# Altium schematic symbol library Resistors.SchLib: 67 symbols (part 6 of 6)
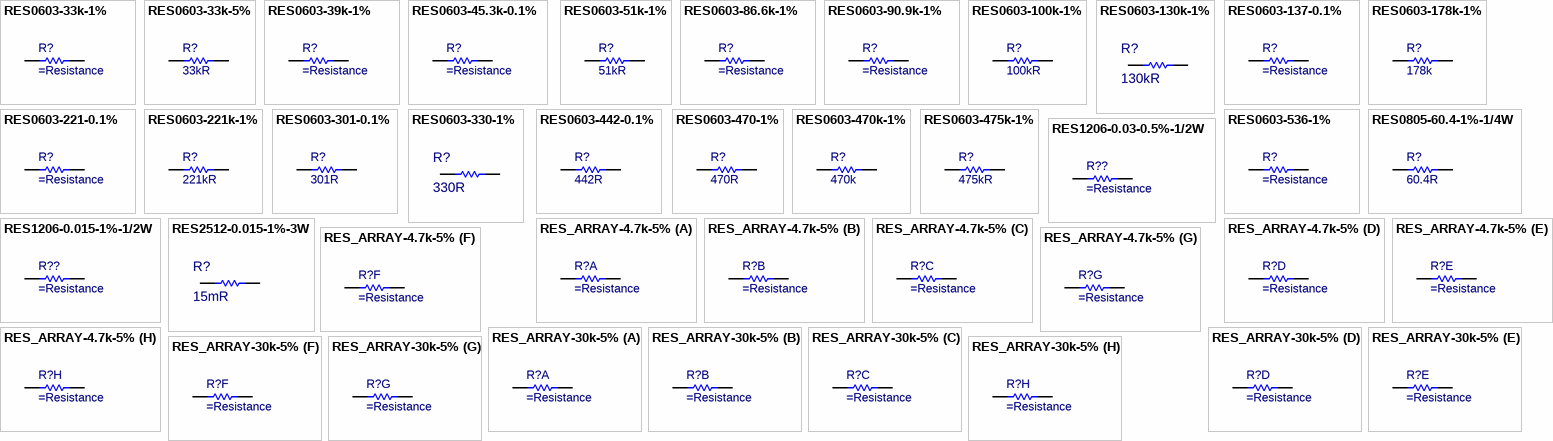
[diagram p7: symbols RES0603-33k-1% to RES_ARRAY-30k-5%]

## RES0603-475k-1%
designator R?, comment 475kR
RES SMD 475K OHM 1% 1/10W 0603; Manufacturer: Bourns; Manufacturer Part Number: CR0603-FX-4753ELF; Power Rating: 100mW; Voltage Rating: 50V; Temperature Coefficient: 100ppm/°C; ComponentLink1URL: https://datasheet.ciiva.com/9122/chpreztr-9122363.pdf; ComponentLink1Description: https://datasheet.ciiva.com/9122/chpreztr-9122363.pdf; ComponentLink2URL: https://datasheet.ciiva.com/22713/691949-22713239.pdf?src-supplier=Element14; ComponentLink2Description: https://datasheet.ciiva.com/22713/691949-22713239.pdf?src-supplier=Element14; ComponentLink3URL: https://datasheet.ciiva.com/23776/1902866-23776391.pdf?src-supplier=Newark; ComponentLink3Description: https://datasheet.ciiva.com/23776/1902866-23776391.pdf?src-supplier=Newark; ComponentLink4URL: https://datasheet.ciiva.com/16766/70154685-16766760.pdf?src-supplier=Allied+Electronics; ComponentLink4Description: https://datasheet.ciiva.com/16766/70154685-16766760.pdf?src-supplier=Allied+Electronics; ComponentLink5URL: https://datasheet.ciiva.com/30229/159chpreztr-30229129.pdf?src-supplier=Onlinecomponents.com; ComponentLink5Description: https://datasheet.ciiva.com/30229/159chpreztr-30229129.pdf?src-supplier=Onlinecomponents.com; ComponentLink6URL: https://datasheet.ciiva.com/16935/chpreztr-16935963.pdf?src-supplier=Avnet+Europe; ComponentLink6Description: https://datasheet.ciiva.com/16935/chpreztr-16935963.pdf?src-supplier=Avnet+Europe; ComponentLink7URL: https://datasheet.ciiva.com/5543/chpreztr-5543676.pdf?src-supplier=Mouser; ComponentLink7Description: https://datasheet.ciiva.com/5543/chpreztr-5543676.pdf?src-supplier=Mouser; ComponentLink8URL: https://datasheet.ciiva.com/9120/chpreztr-9120764.pdf?src-supplier=Avnet; ComponentLink8Description: https://datasheet.ciiva.com/9120/chpreztr-9120764.pdf?src-supplier=Avnet; ComponentLink9URL: https://datasheet.ciiva.com/46383/1791942-46383790.pdf?src-supplier=Element14; ComponentLink9Description: https://datasheet.ciiva.com/46383/1791942-46383790.pdf?src-supplier=Element14; ComponentLink10URL: https://datasheet.ciiva.com/48692/001055501-da-01-en-smd-wid-cr0603-jw-104elf-100k-ohm-1-10w-48692133.pdf?src-supplier=Conrad; ComponentLink10Description: https://datasheet.ciiva.com/48692/001055501-da-01-en-smd-wid-cr0603-jw-104elf-100k-ohm-1-10w-48692133.pdf?src-supplier=Conrad; ComponentLink11URL: https://datasheet.ciiva.com/39121/775172-39121475.pdf?src-supplier=Jameco; ComponentLink11Description: https://datasheet.ciiva.com/39121/775172-39121475.pdf?src-supplier=Jameco; ComponentLink12URL: https://datasheet.ciiva.com/30052/159chpreztr-30052709.pdf?src-supplier=Onlinecomponents.com; ComponentLink12Description: https://datasheet.ciiva.com/30052/159chpreztr-30052709.pdf?src-supplier=Onlinecomponents.com; ComponentLink13URL: https://datasheet.ciiva.com/16935/chpreztr-16935910.pdf?src-supplier=Avnet+Europe; ComponentLink13Description: https://datasheet.ciiva.com/16935/chpreztr-16935910.pdf?src-supplier=Avnet+Europe; ComponentLink14URL: https://datasheet.ciiva.com/46383/1791942-46383767.pdf?src-supplier=Element14; ComponentLink14Description: https://datasheet.ciiva.com/46383/1791942-46383767.pdf?src-supplier=Element14; ComponentLink15URL: https://datasheet.ciiva.com/7986/1902866-7986185.pdf?src-supplier=Element14; ComponentLink15Description: https://datasheet.ciiva.com/7986/1902866-7986185.pdf?src-supplier=Element14; ComponentLink16URL: https://datasheet.ciiva.com/6547/chpreztr-6547278.pdf?src-supplier=Digi-Key; ComponentLink16Description: https://datasheet.ciiva.com/6547/chpreztr-6547278.pdf?src-supplier=Digi-Key; ComponentLink17URL: https://datasheet.ciiva.com/6547/chpreztr-6547279.pdf?src-supplier=Digi-Key; ComponentLink17Description: https://datasheet.ciiva.com/6547/chpreztr-6547279.pdf?src-supplier=Digi-Key; ComponentLink18URL: https://datasheet.ciiva.com/16757/70154685-16757477.pdf?src-supplier=Allied+Electronics; ComponentLink18Description: https://datasheet.ciiva.com/16757/70154685-16757477.pdf?src-supplier=Allied+Electronics; ComponentLink19URL: https://datasheet.ciiva.com/22713/691949-22713237.pdf?src-supplier=Element14; ComponentLink19Description: https://datasheet.ciiva.com/22713/691949-22713237.pdf?src-supplier=Element14; ComponentLink20URL: https://datasheet.ciiva.com/6564/chpreztr-6564439.pdf?src-supplier=Digi-Key; ComponentLink20Description: https://datasheet.ciiva.com/6564/chpreztr-6564439.pdf?src-supplier=Digi-Key; ComponentLink21URL: https://datasheet.ciiva.com/16935/chpreztr-16935928.pdf?src-supplier=Avnet+Europe; ComponentLink21Description: https://datasheet.ciiva.com/16935/chpreztr-16935928.pdf?src-supplier=Avnet+Europe; ComponentLink22URL: https://datasheet.ciiva.com/6564/chpreztr-6564441.pdf?src-supplier=Digi-Key; ComponentLink22Description: https://datasheet.ciiva.com/6564/chpreztr-6564441.pdf?src-supplier=Digi-Key; ComponentLink23URL: https://datasheet.ciiva.com/9123/chpreztr-9123706.pdf?src-supplier=Avnet; ComponentLink23Description: https://datasheet.ciiva.com/9123/chpreztr-9123706.pdf?src-supplier=Avnet; ComponentLink24URL: https://datasheet.ciiva.com/7986/1902866-7986188.pdf?src-supplier=Element14; ComponentLink24Description: https://datasheet.ciiva.com/7986/1902866-7986188.pdf?src-supplier=Element14; ComponentLink25URL: https://datasheet.ciiva.com/46383/691949-46383788.pdf?src-supplier=Element14; ComponentLink25Description: https://datasheet.ciiva.com/46383/691949-46383788.pdf?src-supplier=Element14; ComponentLink26URL: https://datasheet.ciiva.com/11808/0900766b80fcdb72-11808035.pdf?src-supplier=RSComponents; ComponentLink26Description: https://datasheet.ciiva.com/11808/0900766b80fcdb72-11808035.pdf?src-supplier=RSComponents; ComponentLink27URL: https://datasheet.ciiva.com/19466/774882-19466523.pdf?src-supplier=Jameco; ComponentLink27Description: https://datasheet.ciiva.com/19466/774882-19466523.pdf?src-supplier=Jameco; ComponentLink28URL: https://datasheet.ciiva.com/6547/chpreztr-6547349.pdf?src-supplier=Digi-Key; ComponentLink28Description: https://datasheet.ciiva.com/6547/chpreztr-6547349.pdf?src-supplier=Digi-Key; ComponentLink29URL: https://datasheet.ciiva.com/16941/chpreztr-16941637.pdf?src-supplier=Avnet+Europe; ComponentLink29Description: https://datasheet.ciiva.com/16941/chpreztr-16941637.pdf?src-supplier=Avnet+Europe; ComponentLink30URL: https://datasheet.ciiva.com/22693/1902866-22693205.pdf?src-supplier=Element14; ComponentLink30Description: https://datasheet.ciiva.com/22693/1902866-22693205.pdf?src-supplier=Element14; ComponentLink31URL: https://datasheet.ciiva.com/6547/chpreztr-6547350.pdf?src-supplier=Digi-Key; ComponentLink31Description: https://datasheet.ciiva.com/6547/chpreztr-6547350.pdf?src-supplier=Digi-Key; ComponentLink32URL: https://datasheet.ciiva.com/7001/1902866-7001622.pdf?src-supplier=Newark; ComponentLink32Description: https://datasheet.ciiva.com/7001/1902866-7001622.pdf?src-supplier=Newark; ComponentLink33URL: https://datasheet.ciiva.com/30115/159chpreztr-30115222.pdf?src-supplier=Onlinecomponents.com; ComponentLink33Description: https://datasheet.ciiva.com/30115/159chpreztr-30115222.pdf?src-supplier=Onlinecomponents.com; ComponentLink34URL: https://datasheet.ciiva.com/6547/chpreztr-6547351.pdf?src-supplier=Digi-Key; ComponentLink34Description: https://datasheet.ciiva.com/6547/chpreztr-6547351.pdf?src-supplier=Digi-Key; ComponentLink35URL: https://datasheet.ciiva.com/16757/70154685-16757482.pdf?src-supplier=Allied+Electronics; ComponentLink35Description: https://datasheet.ciiva.com/16757/70154685-16757482.pdf?src-supplier=Allied+Electronics; ComponentLink36URL: https://datasheet.ciiva.com/5546/chpreztr-5546283.pdf?src-supplier=Mouser; ComponentLink36Description: https://datasheet.ciiva.com/5546/chpreztr-5546283.pdf?src-supplier=Mouser; ComponentLink37URL: https://datasheet.ciiva.com/7986/691949-7986156.pdf?src-supplier=Element14; ComponentLink37Description: https://datasheet.ciiva.com/7986/691949-7986156.pdf?src-supplier=Element14; ComponentLink38URL: https://datasheet.ciiva.com/3255/chpreztr-3255917.pdf?src-supplier=Avnet; ComponentLink38Description: https://datasheet.ciiva.com/3255/chpreztr-3255917.pdf?src-supplier=Avnet; ComponentLink39URL: https://datasheet.ciiva.com/5547/chpreztr-5547814.pdf?src-supplier=Mouser; ComponentLink39Description: https://datasheet.ciiva.com/5547/chpreztr-5547814.pdf?src-supplier=Mouser; ComponentLink40URL: https://datasheet.ciiva.com/18594/chpreztr-18594942.pdf?src-supplier=Digi-Key; ComponentLink40Description: https://datasheet.ciiva.com/18594/chpreztr-18594942.pdf?src-supplier=Digi-Key; ComponentLink41URL: https://datasheet.ciiva.com/18594/chpreztr-18594943.pdf?src-supplier=Digi-Key; ComponentLink41Description: https://datasheet.ciiva.com/18594/chpreztr-18594943.pdf?src-supplier=Digi-Key; Supplier 1: Digi-Key; RoHS: Yes; Category: Chip SMD Resistors; Stock 1: 18305; Pricing 1: 1=0,10000, 10=0,05600, 100=0,02270, 1000=0,01020, 2500=0,00886 (USD); Mount: Surface Mount; Case/Package: 0603; Case Code (Metric): 1608; Case Code (Imperial): 0603; Contact Plating: Tin; Min Operating Temperature: -55°C; Max Operating Temperature: 155°C; Resistance: 475kR; Tolerance: 1%; Packaging: Tape and Reel; Package Quantity: 5000; Number of Terminations: 2; Termination: SMD/SMT; Military Standard: Not; Features: Moisture Resistant; Composition: Thick Film; Max Power Dissipation: 100mW; Length: 1.6mm; Height: 0.022inch; Width: 0.031inch; Thickness: 457um; Depth: 0.8mm; Radiation Hardening: No; ComponentLink42URL: https://datasheet.ciiva.com/9119/chpreztr-9119642.pdf?src-supplier=Avnet; ComponentLink42Description: https://datasheet.ciiva.com/9119/chpreztr-9119642.pdf?src-supplier=Avnet; ComponentLink43URL: https://datasheet.ciiva.com/14986/chpreztr-14986477.pdf?src-supplier=Digi-Key; ComponentLink43Description: https://datasheet.ciiva.com/14986/chpreztr-14986477.pdf?src-supplier=Digi-Key; ComponentLink44URL: https://datasheet.ciiva.com/5545/chpreztr-5545629.pdf?src-supplier=Mouser; ComponentLink44Description: https://datasheet.ciiva.com/5545/chpreztr-5545629.pdf?src-supplier=Mouser; Supplier Part Number 1: CR0603-FX-4753ELFCT-ND
footprint R0603 (Chip Resistor, 2-Leads, Body 1.75x0.95mm)
pins: 1, 2

## RES0603-536-1%
designator R?
RES SMD 536 OHM 1% 1/10W 0603; Manufacturer: Bourns; Manufacturer Part Number: CR0603-FX-5360ELF; Resistance: 536Ω; Max Power Dissipation: 100mW; Value: 536Ω; Temperature Coefficient: 100ppm/°C; Voltage Rating: 75V; ComponentLink1URL: https://datasheet.octopart.com:443/CRCW0603536RFKEC-Vishay-datasheet-175423584.pdf?src-supplier=IHS; ComponentLink1Description: https://datasheet.octopart.com:443/CRCW0603536RFKEC-Vishay-datasheet-175423584.pdf?src-supplier=IHS; ComponentLink2URL: https://datasheet.octopart.com:443/CRCW0603536RFKEC-Vishay-datasheet-62316122.pdf?src-supplier=Upverter; ComponentLink2Description: https://datasheet.octopart.com:443/CRCW0603536RFKEC-Vishay-datasheet-62316122.pdf?src-supplier=Upverter; ComponentLink3URL: https://datasheet.octopart.com/D-CRCW-e3-Standard-Thick-Film-Chip-Resistors-Vishay-datasheet-family-64.pdf; ComponentLink3Description: https://datasheet.octopart.com/D-CRCW-e3-Standard-Thick-Film-Chip-Resistors-Vishay-datasheet-family-64.pdf; ComponentLink4URL: http://sigma.octopart.com:80/rohs_certificate/D-CRCW-e3-Standard-Thick-Film-Chip-Resistors-Vishay-family-102.pdf?src-supplier=Compliance+Statements; ComponentLink4Description: http://sigma.octopart.com:80/rohs_certificate/D-CRCW-e3-Standard-Thick-Film-Chip-Resistors-Vishay-family-102.pdf?src-supplier=Compliance+Statements; Supplier: DigiKey; Supplier Part Number: 118-CR0603-FX-5360ELFCT-ND; RoHS: Compliant; Category: Chip SMD Resistors; Stock: 18075; Pricing: 1=0,1, 10=0,025, 25=0,0188, 50=0,015, 100=0,0122, 250=0,00948, 500=0,00794, 1000=0,00671 (USD); Case/Package: 0603; Case Code (Imperial): 0603; Case Code (Metric): 1608; China RoHS: Non-Compliant; Composition: Thick Film; Contact Plating: Tin; Depth: 800µm; Features: Moisture Resistant; Height: 450µm; Lifecycle Status: Production; Max Operating Temperature: 155°C; Military Standard: Not; Min Operating Temperature: -55°C; Mounting Technology: Surface Mount; Number of Terminals: 2; Number of Terminations: 2; Packaging: Tape & Reel; Power Dissipation: 100mW; Power Rating: 100mW; Radiation Hardening: No; REACH SVHC: Yes; Termination: SMD/SMT; Tolerance: 1%; Width: 800µm; Working Voltage: 75V; ComponentLink5URL: https://datasheet.octopart.com:443/CR0603-FX-5360ELF-Bourns-datasheet-159578630.pdf?src-supplier=IHS; ComponentLink5Description: https://datasheet.octopart.com:443/CR0603-FX-5360ELF-Bourns-datasheet-159578630.pdf?src-supplier=IHS; ComponentLink6URL: https://datasheet.octopart.com:443/CR0603-FX-5360ELF-Bourns-datasheet-181955239.pdf?src-supplier=IHS; ComponentLink6Description: https://datasheet.octopart.com:443/CR0603-FX-5360ELF-Bourns-datasheet-181955239.pdf?src-supplier=IHS; ComponentLink7URL: https://datasheet.octopart.com/CR0603-FX-5360ELF-Bourns-datasheet-5318152.pdf; ComponentLink7Description: https://datasheet.octopart.com/CR0603-FX-5360ELF-Bourns-datasheet-5318152.pdf; ComponentLink8URL: https://datasheet.octopart.com:443/CR0603-FX-5360ELF-Bourns-datasheet-154729663.pdf?src-supplier=Electro+Sonic; ComponentLink8Description: https://datasheet.octopart.com:443/CR0603-FX-5360ELF-Bourns-datasheet-154729663.pdf?src-supplier=Electro+Sonic; ComponentLink9URL: https://datasheet.octopart.com:443/CR0603-FX-5360ELF-Bourns-datasheet-68301634.pdf?src-supplier=Burklin+Elektronik; ComponentLink9Description: https://datasheet.octopart.com:443/CR0603-FX-5360ELF-Bourns-datasheet-68301634.pdf?src-supplier=Burklin+Elektronik; ComponentLink10URL: http://sigma.octopart.com:80/conflict_mineral_statement/Bourns-company-36.pdf?src-supplier=Compliance+Statements; ComponentLink10Description: http://sigma.octopart.com:80/conflict_mineral_statement/Bourns-company-36.pdf?src-supplier=Compliance+Statements; Supplier 1: DigiKey; Supplier Part Number 1: 118-CR0603-FX-5360ELFCT-ND
footprint R0603 (Chip Resistor, 2-Leads, Body 1.75x0.95mm)
pins: 1, 2

## RES0805-60.4-1%-1/4W
designator R?, comment 60.4R
RES 60.4 OHM 1% 1/4W 0805; Manufacturer: KOA Speer; Manufacturer Part Number: RK73H2ATTD60R4F; Temperature Coefficient: 100ppm/°C; Voltage Rating (DC): 150V; Power Rating: 125mW; ComponentLink1URL: https://datasheet.ciiva.com/9122/chpreztr-9122363.pdf; ComponentLink1Description: https://datasheet.ciiva.com/9122/chpreztr-9122363.pdf; ComponentLink2URL: https://datasheet.ciiva.com/22713/691949-22713239.pdf?src-supplier=Element14; ComponentLink2Description: https://datasheet.ciiva.com/22713/691949-22713239.pdf?src-supplier=Element14; ComponentLink3URL: https://datasheet.ciiva.com/23776/1902866-23776391.pdf?src-supplier=Newark; ComponentLink3Description: https://datasheet.ciiva.com/23776/1902866-23776391.pdf?src-supplier=Newark; ComponentLink4URL: https://datasheet.ciiva.com/16766/70154685-16766760.pdf?src-supplier=Allied+Electronics; ComponentLink4Description: https://datasheet.ciiva.com/16766/70154685-16766760.pdf?src-supplier=Allied+Electronics; ComponentLink5URL: https://datasheet.ciiva.com/30229/159chpreztr-30229129.pdf?src-supplier=Onlinecomponents.com; ComponentLink5Description: https://datasheet.ciiva.com/30229/159chpreztr-30229129.pdf?src-supplier=Onlinecomponents.com; ComponentLink6URL: https://datasheet.ciiva.com/16935/chpreztr-16935963.pdf?src-supplier=Avnet+Europe; ComponentLink6Description: https://datasheet.ciiva.com/16935/chpreztr-16935963.pdf?src-supplier=Avnet+Europe; ComponentLink7URL: https://datasheet.ciiva.com/5543/chpreztr-5543676.pdf?src-supplier=Mouser; ComponentLink7Description: https://datasheet.ciiva.com/5543/chpreztr-5543676.pdf?src-supplier=Mouser; ComponentLink8URL: https://datasheet.ciiva.com/9120/chpreztr-9120764.pdf?src-supplier=Avnet; ComponentLink8Description: https://datasheet.ciiva.com/9120/chpreztr-9120764.pdf?src-supplier=Avnet; ComponentLink9URL: https://datasheet.ciiva.com/46383/1791942-46383790.pdf?src-supplier=Element14; ComponentLink9Description: https://datasheet.ciiva.com/46383/1791942-46383790.pdf?src-supplier=Element14; ComponentLink10URL: https://datasheet.ciiva.com/48692/001055501-da-01-en-smd-wid-cr0603-jw-104elf-100k-ohm-1-10w-48692133.pdf?src-supplier=Conrad; ComponentLink10Description: https://datasheet.ciiva.com/48692/001055501-da-01-en-smd-wid-cr0603-jw-104elf-100k-ohm-1-10w-48692133.pdf?src-supplier=Conrad; ComponentLink11URL: https://datasheet.ciiva.com/39121/775172-39121475.pdf?src-supplier=Jameco; ComponentLink11Description: https://datasheet.ciiva.com/39121/775172-39121475.pdf?src-supplier=Jameco; ComponentLink12URL: https://datasheet.ciiva.com/30052/159chpreztr-30052709.pdf?src-supplier=Onlinecomponents.com; ComponentLink12Description: https://datasheet.ciiva.com/30052/159chpreztr-30052709.pdf?src-supplier=Onlinecomponents.com; ComponentLink13URL: https://datasheet.ciiva.com/16935/chpreztr-16935910.pdf?src-supplier=Avnet+Europe; ComponentLink13Description: https://datasheet.ciiva.com/16935/chpreztr-16935910.pdf?src-supplier=Avnet+Europe; ComponentLink14URL: https://datasheet.ciiva.com/46383/1791942-46383767.pdf?src-supplier=Element14; ComponentLink14Description: https://datasheet.ciiva.com/46383/1791942-46383767.pdf?src-supplier=Element14; ComponentLink15URL: https://datasheet.ciiva.com/7986/1902866-7986185.pdf?src-supplier=Element14; ComponentLink15Description: https://datasheet.ciiva.com/7986/1902866-7986185.pdf?src-supplier=Element14; ComponentLink16URL: https://datasheet.ciiva.com/6547/chpreztr-6547278.pdf?src-supplier=Digi-Key; ComponentLink16Description: https://datasheet.ciiva.com/6547/chpreztr-6547278.pdf?src-supplier=Digi-Key; ComponentLink17URL: https://datasheet.ciiva.com/6547/chpreztr-6547279.pdf?src-supplier=Digi-Key; ComponentLink17Description: https://datasheet.ciiva.com/6547/chpreztr-6547279.pdf?src-supplier=Digi-Key; ComponentLink18URL: https://datasheet.ciiva.com/16757/70154685-16757477.pdf?src-supplier=Allied+Electronics; ComponentLink18Description: https://datasheet.ciiva.com/16757/70154685-16757477.pdf?src-supplier=Allied+Electronics; ComponentLink19URL: https://datasheet.ciiva.com/22713/691949-22713237.pdf?src-supplier=Element14; ComponentLink19Description: https://datasheet.ciiva.com/22713/691949-22713237.pdf?src-supplier=Element14; ComponentLink20URL: https://datasheet.ciiva.com/6564/chpreztr-6564439.pdf?src-supplier=Digi-Key; ComponentLink20Description: https://datasheet.ciiva.com/6564/chpreztr-6564439.pdf?src-supplier=Digi-Key; ComponentLink21URL: https://datasheet.ciiva.com/16935/chpreztr-16935928.pdf?src-supplier=Avnet+Europe; ComponentLink21Description: https://datasheet.ciiva.com/16935/chpreztr-16935928.pdf?src-supplier=Avnet+Europe; ComponentLink22URL: https://datasheet.ciiva.com/6564/chpreztr-6564441.pdf?src-supplier=Digi-Key; ComponentLink22Description: https://datasheet.ciiva.com/6564/chpreztr-6564441.pdf?src-supplier=Digi-Key; ComponentLink23URL: https://datasheet.ciiva.com/9123/chpreztr-9123706.pdf?src-supplier=Avnet; ComponentLink23Description: https://datasheet.ciiva.com/9123/chpreztr-9123706.pdf?src-supplier=Avnet; ComponentLink24URL: https://datasheet.ciiva.com/7986/1902866-7986188.pdf?src-supplier=Element14; ComponentLink24Description: https://datasheet.ciiva.com/7986/1902866-7986188.pdf?src-supplier=Element14; ComponentLink25URL: https://datasheet.ciiva.com/46383/691949-46383788.pdf?src-supplier=Element14; ComponentLink25Description: https://datasheet.ciiva.com/46383/691949-46383788.pdf?src-supplier=Element14; ComponentLink26URL: https://datasheet.ciiva.com/11808/0900766b80fcdb72-11808035.pdf?src-supplier=RSComponents; ComponentLink26Description: https://datasheet.ciiva.com/11808/0900766b80fcdb72-11808035.pdf?src-supplier=RSComponents; ComponentLink27URL: https://datasheet.ciiva.com/19466/774882-19466523.pdf?src-supplier=Jameco; ComponentLink27Description: https://datasheet.ciiva.com/19466/774882-19466523.pdf?src-supplier=Jameco; ComponentLink28URL: https://datasheet.ciiva.com/6547/chpreztr-6547349.pdf?src-supplier=Digi-Key; ComponentLink28Description: https://datasheet.ciiva.com/6547/chpreztr-6547349.pdf?src-supplier=Digi-Key; ComponentLink29URL: https://datasheet.ciiva.com/16941/chpreztr-16941637.pdf?src-supplier=Avnet+Europe; ComponentLink29Description: https://datasheet.ciiva.com/16941/chpreztr-16941637.pdf?src-supplier=Avnet+Europe; ComponentLink30URL: https://datasheet.ciiva.com/22693/1902866-22693205.pdf?src-supplier=Element14; ComponentLink30Description: https://datasheet.ciiva.com/22693/1902866-22693205.pdf?src-supplier=Element14; ComponentLink31URL: https://datasheet.ciiva.com/6547/chpreztr-6547350.pdf?src-supplier=Digi-Key; ComponentLink31Description: https://datasheet.ciiva.com/6547/chpreztr-6547350.pdf?src-supplier=Digi-Key; ComponentLink32URL: https://datasheet.ciiva.com/7001/1902866-7001622.pdf?src-supplier=Newark; ComponentLink32Description: https://datasheet.ciiva.com/7001/1902866-7001622.pdf?src-supplier=Newark; ComponentLink33URL: https://datasheet.ciiva.com/30115/159chpreztr-30115222.pdf?src-supplier=Onlinecomponents.com; ComponentLink33Description: https://datasheet.ciiva.com/30115/159chpreztr-30115222.pdf?src-supplier=Onlinecomponents.com; ComponentLink34URL: https://datasheet.ciiva.com/6547/chpreztr-6547351.pdf?src-supplier=Digi-Key; ComponentLink34Description: https://datasheet.ciiva.com/6547/chpreztr-6547351.pdf?src-supplier=Digi-Key; ComponentLink35URL: https://datasheet.ciiva.com/16757/70154685-16757482.pdf?src-supplier=Allied+Electronics; ComponentLink35Description: https://datasheet.ciiva.com/16757/70154685-16757482.pdf?src-supplier=Allied+Electronics; ComponentLink36URL: https://datasheet.ciiva.com/5546/chpreztr-5546283.pdf?src-supplier=Mouser; ComponentLink36Description: https://datasheet.ciiva.com/5546/chpreztr-5546283.pdf?src-supplier=Mouser; ComponentLink37URL: https://datasheet.ciiva.com/7986/691949-7986156.pdf?src-supplier=Element14; ComponentLink37Description: https://datasheet.ciiva.com/7986/691949-7986156.pdf?src-supplier=Element14; ComponentLink38URL: https://datasheet.ciiva.com/3255/chpreztr-3255917.pdf?src-supplier=Avnet; ComponentLink38Description: https://datasheet.ciiva.com/3255/chpreztr-3255917.pdf?src-supplier=Avnet; ComponentLink39URL: https://datasheet.ciiva.com/5547/chpreztr-5547814.pdf?src-supplier=Mouser; ComponentLink39Description: https://datasheet.ciiva.com/5547/chpreztr-5547814.pdf?src-supplier=Mouser; ComponentLink40URL: https://datasheet.ciiva.com/18594/chpreztr-18594942.pdf?src-supplier=Digi-Key; ComponentLink40Description: https://datasheet.ciiva.com/18594/chpreztr-18594942.pdf?src-supplier=Digi-Key; ComponentLink41URL: https://datasheet.ciiva.com/18594/chpreztr-18594943.pdf?src-supplier=Digi-Key; ComponentLink41Description: https://datasheet.ciiva.com/18594/chpreztr-18594943.pdf?src-supplier=Digi-Key; ComponentLink42URL: https://datasheet.ciiva.com/9119/chpreztr-9119642.pdf?src-supplier=Avnet; ComponentLink42Description: https://datasheet.ciiva.com/9119/chpreztr-9119642.pdf?src-supplier=Avnet; ComponentLink43URL: https://datasheet.ciiva.com/14986/chpreztr-14986477.pdf?src-supplier=Digi-Key; ComponentLink43Description: https://datasheet.ciiva.com/14986/chpreztr-14986477.pdf?src-supplier=Digi-Key; ComponentLink44URL: https://datasheet.ciiva.com/5545/chpreztr-5545629.pdf?src-supplier=Mouser; ComponentLink44Description: https://datasheet.ciiva.com/5545/chpreztr-5545629.pdf?src-supplier=Mouser; ComponentLink45URL: https://datasheet.ciiva.com/9122/chpreztr-9122039.pdf?src-supplier=Avnet; ComponentLink45Description: https://datasheet.ciiva.com/9122/chpreztr-9122039.pdf?src-supplier=Avnet; ComponentLink46URL: https://datasheet.ciiva.com/16937/chpreztr-16937562.pdf?src-supplier=Avnet+Europe; ComponentLink46Description: https://datasheet.ciiva.com/16937/chpreztr-16937562.pdf?src-supplier=Avnet+Europe; ComponentLink47URL: https://datasheet.ciiva.com/11809/0900766b80fcdb72-11809586.pdf?src-supplier=RSComponents; ComponentLink47Description: https://datasheet.ciiva.com/11809/0900766b80fcdb72-11809586.pdf?src-supplier=RSComponents; ComponentLink48URL: https://datasheet.ciiva.com/16939/chpreztr-16939623.pdf?src-supplier=Avnet+Europe; ComponentLink48Description: https://datasheet.ciiva.com/16939/chpreztr-16939623.pdf?src-supplier=Avnet+Europe; ComponentLink49URL: https://datasheet.ciiva.com/30062/159chpreztr-30062601.pdf?src-supplier=Onlinecomponents.com; ComponentLink49Description: https://datasheet.ciiva.com/30062/159chpreztr-30062601.pdf?src-supplier=Onlinecomponents.com; ComponentLink50URL: https://datasheet.ciiva.com/7986/691949-7986171.pdf?src-supplier=Element14; ComponentLink50Description: https://datasheet.ciiva.com/7986/691949-7986171.pdf?src-supplier=Element14; ComponentLink51URL: https://datasheet.ciiva.com/16761/70154685-16761515.pdf?src-supplier=Allied+Electronics; ComponentLink51Description: https://datasheet.ciiva.com/16761/70154685-16761515.pdf?src-supplier=Allied+Electronics; ComponentLink52URL: https://datasheet.ciiva.com/5545/chpreztr-5545708.pdf?src-supplier=Mouser; ComponentLink52Description: https://datasheet.ciiva.com/5545/chpreztr-5545708.pdf?src-supplier=Mouser; ComponentLink53URL: https://datasheet.ciiva.com/7660/1856384-7660956.pdf?src-supplier=Element14; ComponentLink53Description: https://datasheet.ciiva.com/7660/1856384-7660956.pdf?src-supplier=Element14; ComponentLink54URL: https://datasheet.ciiva.com/7001/1902866-7001645.pdf?src-supplier=Newark; ComponentLink54Description: https://datasheet.ciiva.com/7001/1902866-7001645.pdf?src-supplier=Newark; ComponentLink55URL: https://datasheet.ciiva.com/22693/1902866-22693213.pdf?src-supplier=Element14; ComponentLink55Description: https://datasheet.ciiva.com/22693/1902866-22693213.pdf?src-supplier=Element14; ComponentLink56URL: https://datasheet.ciiva.com/48692/001055497-da-01-en-smd-wid-cr0603-j-000elf-0-0-ohm-1-10w-48692135.pdf?src-supplier=Conrad; ComponentLink56Description: https://datasheet.ciiva.com/48692/001055497-da-01-en-smd-wid-cr0603-j-000elf-0-0-ohm-1-10w-48692135.pdf?src-supplier=Conrad; Supplier 1: Digi-Key; RoHS: Yes; Category: Chip SMD Resistors; Stock 1: 27514; Pricing 1: 1=0,10000, 10=0,03300, 100=0,01360, 1000=0,00612, 2500=0,00531 (USD); Case/Package: 0805; Case Code (Imperial): 0805; Case Code (Metric): 2012; Min Operating Temperature: -55°C; Max Operating Temperature: 155°C; Termination: SMD/SMT; Military Standard: Not; Composition: Thick Film; Resistance: 60.4R; Tolerance: 1%; Voltage Rating: 150V; Packaging: Tape and Reel; Package Quantity: 5000; Length: 2mm; Height: 0.5mm; Depth: 1.25mm; Width: 1.25mm; Radiation Hardening: No; ComponentLink57URL: https://datasheet.ciiva.com/5556/rk73h-5556969.pdf?src-supplier=Mouser; ComponentLink57Description: https://datasheet.ciiva.com/5556/rk73h-5556969.pdf?src-supplier=Mouser; Supplier Part Number 1: 2019-RK73H2ATTD60R4FCT-ND
footprint R0805 (Chip Resistor, 2-Leads, Body 2.00x1.25mm, IPC Medium Density)
pins: 1, 2

## RES1206-0.03-0.5%-1/2W
designator R??
RES 0.03 OHM 1% 1W 1206; Manufacturer: Vishay; Manufacturer Part Number: WSLP1206R0300FEA; Resistance: 30mΩ; Value: 30mΩ; Temperature Coefficient: 75ppm/°C; Working Voltage: 173.2mV; Supplier: DigiKey; Supplier Part Number: WSLP-.03CT-ND; RoHS: Compliant; Category: Chip SMD Resistors; Stock: 11025; Pricing: 1=0,67, 10=0,398, 25=0,338, 50=0,3108, 100=0,3064, 250=0,27116, 500=0,24952, 1000=0,23003 (USD); Case/Package: 1206; Case Code (Imperial): 1206; Case Code (Metric): 3216; China RoHS: Compliant; Composition: Metal Strip; Contact Plating: Tin; Depth: 1.6mm; Height: 635µm; Lead Free: Lead Free; Length: 3.2mm; Lifecycle Status: Production; Max Operating Temperature: 170°C; Min Operating Temperature: -65°C; Mounting Technology: Surface Mount; Pins: 2; Number of Terminals: 2; Packaging: Cut Tape; Power Dissipation: 1W; Power Rating: 1W; Radiation Hardening: No; REACH SVHC: Yes; Schedule B: 8533210045, 8533210045|8533210045|8533210045|8533210045|8533210045|8533210045|8533210045|8533210045|8533210045|8533210045|8533210045|8533210045|8533210045, 8533210045|8533210045|8533210045|8533210045|8533210045|8533210045|8533210045|8533210045|8533210045|8533210045|8533210045|8533210045|8533210045|8533210045, 8533210045|8533210045|8533210045|8533210045|8533210045|8533210045|8533210045|8533210045|8533210045|8533210045|8533210045|8533210045|8533210045|8533210045|8533210045; Termination: SMD/SMT; Tolerance: 1%; Weight: 16.187578mg; Width: 1.6mm; ComponentLink1URL: https://datasheet.octopart.com:443/WSLP1206R0300FEA-Vishay-datasheet-181963776.pdf?src-supplier=IHS; ComponentLink1Description: https://datasheet.octopart.com:443/WSLP1206R0300FEA-Vishay-datasheet-181963776.pdf?src-supplier=IHS; ComponentLink2URL: https://datasheet.octopart.com:443/WSLP1206R0300FEA-Vishay-datasheet-159777580.pdf?src-supplier=Farnell; ComponentLink2Description: https://datasheet.octopart.com:443/WSLP1206R0300FEA-Vishay-datasheet-159777580.pdf?src-supplier=Farnell; ComponentLink3URL: https://datasheet.octopart.com:443/WSLP1206R0300FEA-Vishay-datasheet-62319857.pdf?src-supplier=Farnell; ComponentLink3Description: https://datasheet.octopart.com:443/WSLP1206R0300FEA-Vishay-datasheet-62319857.pdf?src-supplier=Farnell; ComponentLink4URL: https://datasheet.octopart.com:443/WSLP1206R0300FEA-Vishay-datasheet-33014040.pdf?src-supplier=element14+APAC; ComponentLink4Description: https://datasheet.octopart.com:443/WSLP1206R0300FEA-Vishay-datasheet-33014040.pdf?src-supplier=element14+APAC; ComponentLink5URL: https://datasheet.octopart.com:443/WSLP1206R0300FEA-Vishay-datasheet-188933469.pdf?src-supplier=TME; ComponentLink5Description: https://datasheet.octopart.com:443/WSLP1206R0300FEA-Vishay-datasheet-188933469.pdf?src-supplier=TME; ComponentLink6URL: https://datasheet.octopart.com:443/WSLP1206R0300FEA-Vishay-Dale-datasheet-62311745.pdf?src-supplier=RS+(Formerly+Allied+Electronics); ComponentLink6Description: https://datasheet.octopart.com:443/WSLP1206R0300FEA-Vishay-Dale-datasheet-62311745.pdf?src-supplier=RS+(Formerly+Allied+Electronics); ComponentLink7URL: https://datasheet.octopart.com:443/WSLP1206R0300FEA-Vishay-datasheet-140572164.pdf?src-supplier=Arrow.cn; ComponentLink7Description: https://datasheet.octopart.com:443/WSLP1206R0300FEA-Vishay-datasheet-140572164.pdf?src-supplier=Arrow.cn; ComponentLink8URL: https://datasheet.octopart.com:443/WSLP1206R0300FEA-Vishay-datasheet-23750905.pdf?src-supplier=Future+Electronics; ComponentLink8Description: https://datasheet.octopart.com:443/WSLP1206R0300FEA-Vishay-datasheet-23750905.pdf?src-supplier=Future+Electronics; ComponentLink9URL: https://datasheet.octopart.com:443/WSLP1206R0300FEA-Vishay-datasheet-12552275.pdf?src-supplier=Future+Electronics; ComponentLink9Description: https://datasheet.octopart.com:443/WSLP1206R0300FEA-Vishay-datasheet-12552275.pdf?src-supplier=Future+Electronics; ComponentLink10URL: https://datasheet.octopart.com:443/WSLP1206R0300FEA-Vishay-datasheet-12524936.pdf?src-supplier=Future+Electronics; ComponentLink10Description: https://datasheet.octopart.com:443/WSLP1206R0300FEA-Vishay-datasheet-12524936.pdf?src-supplier=Future+Electronics; ComponentLink11URL: https://datasheet.octopart.com:443/WSLP1206R0300FEA-Vishay-datasheet-10288153.pdf?src-supplier=Future+Electronics; ComponentLink11Description: https://datasheet.octopart.com:443/WSLP1206R0300FEA-Vishay-datasheet-10288153.pdf?src-supplier=Future+Electronics; ComponentLink12URL: https://datasheet.octopart.com:443/WSLP1206R0300FEA-Vishay-datasheet-10193938.pdf?src-supplier=Future+Electronics; ComponentLink12Description: https://datasheet.octopart.com:443/WSLP1206R0300FEA-Vishay-datasheet-10193938.pdf?src-supplier=Future+Electronics; ComponentLink13URL: https://datasheet.octopart.com:443/WSLP1206R0300FEA-Vishay-datasheet-8391956.pdf?src-supplier=Future+Electronics; ComponentLink13Description: https://datasheet.octopart.com:443/WSLP1206R0300FEA-Vishay-datasheet-8391956.pdf?src-supplier=Future+Electronics; ComponentLink14URL: https://datasheet.octopart.com:443/WSLP1206R0300FEA-Vishay-datasheet-21271716.pdf?src-supplier=Newark; ComponentLink14Description: https://datasheet.octopart.com:443/WSLP1206R0300FEA-Vishay-datasheet-21271716.pdf?src-supplier=Newark; ComponentLink15URL: http://sigma.octopart.com:80/rohs_statement/Vishay-company-15.pdf?src-supplier=Compliance+Statements; ComponentLink15Description: http://sigma.octopart.com:80/rohs_statement/Vishay-company-15.pdf?src-supplier=Compliance+Statements; Supplier 1: DigiKey; Supplier Part Number 1: WSLP-.03CT-ND
footprint R1206 (Chip Resistor, 2-Leads, Body 3.13x1.55mm, IPC Medium Density)
pins: 1, 2

## RES1206-0.015-1%-1/2W
designator R??
RES 0.015 OHM 1% 1/2W 1206; Manufacturer: Vishay; Manufacturer Part Number: WSL1206R0150FEA18; Resistance: 15mΩ; Power Dissipation: 500mW; Power Rating: 250mW; Value: 15mΩ; Temperature Coefficient: 75ppm/°C; Working Voltage: 86.6mV; Supplier: DigiKey; Supplier Part Number: 541-10055-1-ND; RoHS: Compliant; Category: Chip SMD Resistors; Stock: 9189; Pricing: 1=1,1, 10=0,775, 25=0,6844, 50=0,6378, 100=0,5683, 250=0,49528, 500=0,45408, 1000=0,43476 (USD); Case/Package: 1206; Case Code (Imperial): 1206; Case Code (Metric): 3216; China RoHS: Compliant; Composition: Metal Strip; Contact Plating: Tin; Height: 635µm; Lead Free: Lead Free; Lifecycle Status: Production; Max Operating Temperature: 170°C; Min Operating Temperature: -65°C; Mounting Technology: Surface Mount; Pins: 1206; Number of Terminals: 2; Packaging: Tape and Reel; Radiation Hardening: No; REACH SVHC: Yes; Schedule B: 8533210045, 8533210045|8533210045|8533210045|8533210045|8533210045|8533210045|8533210045|8533210045|8533210045|8533210045|8533210045|8533210045|8533210045|8533210045|8533210045|8533210045|8533210045|8533210045|8533210045|8533210045|8533210045|8533210045|8533210045|85; Termination: SMD/SMT; Tolerance: 1%; Width: 1.6mm; ComponentLink1URL: https://datasheet.octopart.com:443/WSL1206R0150FEA18-Vishay-datasheet-182188669.pdf?src-supplier=IHS; ComponentLink1Description: https://datasheet.octopart.com:443/WSL1206R0150FEA18-Vishay-datasheet-182188669.pdf?src-supplier=IHS; ComponentLink2URL: https://datasheet.octopart.com:443/WSL1206R0150FEA18-Vishay-Dale-datasheet-129887162.pdf?src-supplier=RS+(Formerly+Allied+Electronics); ComponentLink2Description: https://datasheet.octopart.com:443/WSL1206R0150FEA18-Vishay-Dale-datasheet-129887162.pdf?src-supplier=RS+(Formerly+Allied+Electronics); ComponentLink3URL: https://datasheet.octopart.com:443/WSL1206R0150FEA18-Vishay-Dale-datasheet-129883331.pdf?src-supplier=RS+(Formerly+Allied+Electronics); ComponentLink3Description: https://datasheet.octopart.com:443/WSL1206R0150FEA18-Vishay-Dale-datasheet-129883331.pdf?src-supplier=RS+(Formerly+Allied+Electronics); ComponentLink4URL: https://datasheet.octopart.com:443/WSL1206R0150FEA18-Vishay-datasheet-13216852.pdf?src-supplier=Future+Electronics; ComponentLink4Description: https://datasheet.octopart.com:443/WSL1206R0150FEA18-Vishay-datasheet-13216852.pdf?src-supplier=Future+Electronics; ComponentLink5URL: https://datasheet.octopart.com:443/WSL1206R0150FEA18-Vishay-datasheet-13141846.pdf?src-supplier=Future+Electronics; ComponentLink5Description: https://datasheet.octopart.com:443/WSL1206R0150FEA18-Vishay-datasheet-13141846.pdf?src-supplier=Future+Electronics; ComponentLink6URL: https://datasheet.octopart.com:443/WSL1206R0150FEA18-Vishay-datasheet-12530796.pdf?src-supplier=Future+Electronics; ComponentLink6Description: https://datasheet.octopart.com:443/WSL1206R0150FEA18-Vishay-datasheet-12530796.pdf?src-supplier=Future+Electronics; ComponentLink7URL: https://datasheet.octopart.com:443/WSL1206R0150FEA18-Vishay-datasheet-12517404.pdf?src-supplier=Future+Electronics; ComponentLink7Description: https://datasheet.octopart.com:443/WSL1206R0150FEA18-Vishay-datasheet-12517404.pdf?src-supplier=Future+Electronics; ComponentLink8URL: https://datasheet.octopart.com:443/WSL1206R0150FEA18-Vishay-datasheet-12512122.pdf?src-supplier=Future+Electronics; ComponentLink8Description: https://datasheet.octopart.com:443/WSL1206R0150FEA18-Vishay-datasheet-12512122.pdf?src-supplier=Future+Electronics; ComponentLink9URL: https://datasheet.octopart.com:443/WSL1206R0150FEA18-Vishay-datasheet-8446627.pdf?src-supplier=Future+Electronics; ComponentLink9Description: https://datasheet.octopart.com:443/WSL1206R0150FEA18-Vishay-datasheet-8446627.pdf?src-supplier=Future+Electronics; ComponentLink10URL: https://datasheet.octopart.com:443/WSL1206R0150FEA18-Vishay-datasheet-557356.pdf?src-supplier=Future+Electronics; ComponentLink10Description: https://datasheet.octopart.com:443/WSL1206R0150FEA18-Vishay-datasheet-557356.pdf?src-supplier=Future+Electronics; ComponentLink11URL: https://datasheet.octopart.com:443/WSL1206R0150FEA18-Vishay-datasheet-537020.pdf?src-supplier=Future+Electronics; ComponentLink11Description: https://datasheet.octopart.com:443/WSL1206R0150FEA18-Vishay-datasheet-537020.pdf?src-supplier=Future+Electronics; ComponentLink12URL: https://datasheet.octopart.com/WSL1206R0150FEA18-Vishay-datasheet-12611970.pdf; ComponentLink12Description: https://datasheet.octopart.com/WSL1206R0150FEA18-Vishay-datasheet-12611970.pdf; ComponentLink13URL: https://datasheet.octopart.com/WSL1206R0150FEA18-Vishay-datasheet-12549164.pdf; ComponentLink13Description: https://datasheet.octopart.com/WSL1206R0150FEA18-Vishay-datasheet-12549164.pdf; ComponentLink14URL: https://datasheet.octopart.com/WSL1206R0150FEA18-Vishay-datasheet-12538426.pdf; ComponentLink14Description: https://datasheet.octopart.com/WSL1206R0150FEA18-Vishay-datasheet-12538426.pdf; ComponentLink15URL: https://datasheet.octopart.com/WSL1206R0150FEA18-Vishay-datasheet-12526373.pdf; ComponentLink15Description: https://datasheet.octopart.com/WSL1206R0150FEA18-Vishay-datasheet-12526373.pdf; ComponentLink16URL: https://datasheet.octopart.com/WSL1206R0150FEA18-Vishay-datasheet-12511051.pdf; ComponentLink16Description: https://datasheet.octopart.com/WSL1206R0150FEA18-Vishay-datasheet-12511051.pdf; ComponentLink17URL: https://datasheet.octopart.com/WSL1206R0150FEA18-Vishay-datasheet-12509825.pdf; ComponentLink17Description: https://datasheet.octopart.com/WSL1206R0150FEA18-Vishay-datasheet-12509825.pdf; ComponentLink18URL: https://datasheet.octopart.com/WSL1206R0150FEA18-Vishay-datasheet-10321665.pdf; ComponentLink18Description: https://datasheet.octopart.com/WSL1206R0150FEA18-Vishay-datasheet-10321665.pdf; ComponentLink19URL: https://datasheet.octopart.com/WSL1206R0150FEA18-Vishay-datasheet-10185312.pdf; ComponentLink19Description: https://datasheet.octopart.com/WSL1206R0150FEA18-Vishay-datasheet-10185312.pdf; ComponentLink20URL: https://datasheet.octopart.com/WSL1206R0150FEA18-Vishay-datasheet-10052438.pdf; ComponentLink20Description: https://datasheet.octopart.com/WSL1206R0150FEA18-Vishay-datasheet-10052438.pdf; ComponentLink21URL: https://datasheet.octopart.com/WSL1206R0150FEA18-Vishay-datasheet-8835972.pdf; ComponentLink21Description: https://datasheet.octopart.com/WSL1206R0150FEA18-Vishay-datasheet-8835972.pdf; ComponentLink22URL: https://datasheet.octopart.com/WSL1206R0150FEA18-Vishay-datasheet-8823728.pdf; ComponentLink22Description: https://datasheet.octopart.com/WSL1206R0150FEA18-Vishay-datasheet-8823728.pdf; ComponentLink23URL: https://datasheet.octopart.com/WSL1206R0150FEA18-Vishay-datasheet-8399386.pdf; ComponentLink23Description: https://datasheet.octopart.com/WSL1206R0150FEA18-Vishay-datasheet-8399386.pdf; ComponentLink24URL: https://datasheet.octopart.com/WSL1206R0150FEA18-Vishay-datasheet-8360116.pdf; ComponentLink24Description: https://datasheet.octopart.com/WSL1206R0150FEA18-Vishay-datasheet-8360116.pdf; ComponentLink25URL: https://datasheet.octopart.com/WSL1206R0150FEA18-Vishay-datasheet-8324437.pdf; ComponentLink25Description: https://datasheet.octopart.com/WSL1206R0150FEA18-Vishay-datasheet-8324437.pdf; ComponentLink26URL: https://datasheet.octopart.com/WSL1206R0150FEA18-Vishay-datasheet-5313814.pdf; ComponentLink26Description: https://datasheet.octopart.com/WSL1206R0150FEA18-Vishay-datasheet-5313814.pdf; ComponentLink27URL: https://datasheet.octopart.com/WSL1206R0150FEA18-Vishay-datasheet-545772.pdf; ComponentLink27Description: https://datasheet.octopart.com/WSL1206R0150FEA18-Vishay-datasheet-545772.pdf; ComponentLink28URL: https://datasheet.octopart.com/WSL1206R0150FEA18-Vishay-datasheet-541067.pdf; ComponentLink28Description: https://datasheet.octopart.com/WSL1206R0150FEA18-Vishay-datasheet-541067.pdf; ComponentLink29URL: https://datasheet.octopart.com/WSL1206R0150FEA18-Vishay-datasheet-537147.pdf; ComponentLink29Description: https://datasheet.octopart.com/WSL1206R0150FEA18-Vishay-datasheet-537147.pdf; ComponentLink30URL: https://datasheet.octopart.com/WSL1206R0150FEA18-Vishay-datasheet-533975.pdf; ComponentLink30Description: https://datasheet.octopart.com/WSL1206R0150FEA18-Vishay-datasheet-533975.pdf; ComponentLink31URL: https://datasheet.octopart.com/WSL1206R0150FEA18-Vishay-datasheet-526231.pdf; ComponentLink31Description: https://datasheet.octopart.com/WSL1206R0150FEA18-Vishay-datasheet-526231.pdf; ComponentLink32URL: https://datasheet.octopart.com/WSL1206R0150FEA18-Vishay-datasheet-512933.pdf; ComponentLink32Description: https://datasheet.octopart.com/WSL1206R0150FEA18-Vishay-datasheet-512933.pdf; ComponentLink33URL: https://datasheet.octopart.com/WSL1206R0150FEA18-Vishay-datasheet-500982.pdf; ComponentLink33Description: https://datasheet.octopart.com/WSL1206R0150FEA18-Vishay-datasheet-500982.pdf; ComponentLink34URL: https://datasheet.octopart.com:443/WSL1206R0150FEA18-Vishay-datasheet-120441.pdf?src-supplier=Mouser; ComponentLink34Description: https://datasheet.octopart.com:443/WSL1206R0150FEA18-Vishay-datasheet-120441.pdf?src-supplier=Mouser; ComponentLink35URL: http://sigma.octopart.com:80/rohs_statement/Vishay-company-15.pdf?src-supplier=Compliance+Statements; ComponentLink35Description: http://sigma.octopart.com:80/rohs_statement/Vishay-company-15.pdf?src-supplier=Compliance+Statements; Supplier 1: DigiKey; Supplier Part Number 1: 541-10055-1-ND
footprint R1206 (Chip Resistor, 2-Leads, Body 3.13x1.55mm, IPC Medium Density)
pins: 1, 2

## RES2512-0.015-1%-3W
designator R?, comment 15mR
RES 0.015 OHM 1% 3W 2512; Manufacturer: Bourns; Manufacturer Part Number: CRA2512-FZ-R015ELF; Temperature Coefficient: 75ppm/°C; Supplier 1: Digi-Key; RoHS: No; Category: Chip SMD Resistors; Stock 1: 20650; Pricing 1: 1=0.58000, 10=0.44800, 25=0.34120, 50=0.25360, 100=0.18850, 250=0.15924, 500=0.13650, 1000=0.10400 (USD); Mount: Surface Mount; Case/Package: 2512; Case Code (Metric): 6432; Case Code (Imperial): 2512; Min Operating Temperature: -55°C; Max Operating Temperature: 170°C; Resistor Type: Metal Film,Thick Film; Max Power Dissipation: 3W; Number of Terminations: 2; Termination: Solder; Features: Moisture Resistant; Resistance: 15mR; Power Rating: 3W; Tolerance: 1%; Packaging: Tape and Reel; Package Quantity: 1; Length: 0.254inch; Width: 0.126inch; Height: 0.035inch; Depth: 3.2mm; Lead Free: Lead Free; Military Standard: Not; REACH SVHC: No SVHC; ComponentLink1URL: https://datasheet.ciiva.com/11809/0900766b80ddce06-11809887.pdf?src-supplier=RSComponents; ComponentLink1Description: https://datasheet.ciiva.com/11809/0900766b80ddce06-11809887.pdf?src-supplier=RSComponents; ComponentLink2URL: https://datasheet.ciiva.com/6548/cra-6548395.pdf?src-supplier=Digi-Key; ComponentLink2Description: https://datasheet.ciiva.com/6548/cra-6548395.pdf?src-supplier=Digi-Key; ComponentLink3URL: https://datasheet.ciiva.com/6548/cra-6548411.pdf?src-supplier=Digi-Key; ComponentLink3Description: https://datasheet.ciiva.com/6548/cra-6548411.pdf?src-supplier=Digi-Key; ComponentLink4URL: https://datasheet.ciiva.com/6548/cra-6548413.pdf?src-supplier=Digi-Key; ComponentLink4Description: https://datasheet.ciiva.com/6548/cra-6548413.pdf?src-supplier=Digi-Key; ComponentLink5URL: https://datasheet.ciiva.com/48692/001055548-da-01-en-wid-cra2512-fz-r015elf-0-015-ohm-3w-1-48692039.pdf?src-supplier=Conrad; ComponentLink5Description: https://datasheet.ciiva.com/48692/001055548-da-01-en-wid-cra2512-fz-r015elf-0-015-ohm-3w-1-48692039.pdf?src-supplier=Conrad; Supplier Part Number 1: CRA2512-FZ-R015ELFCT-ND
footprint R2512 (0.254" L x 0.132" W (6.45mm x 3.35mm))
pins: 1, 2

## RES_ARRAY-4.7k-5%
designator R?
RES ARRAY 8 RES 4.7K OHM 1606; Manufacturer: Yageo; Manufacturer Part Number: YC248-FR-074K7L; Resistance: 4.7kR; Value: 4.7kR; Tolerance: 1%; Circuit Type: Isolated; Number of Resistors: 8; Power Per Element: 62.5mW; Temperature Coefficient: 200ppm/°C; Supplier: Digikey; Supplier Part Number: 13-YC248-FR-074K7LCT-ND; RoHS: Yes; Category: Resistor Arrays; Stock: 883; Pricing: 1=0,44, 10=0,246, 25=0,198, 50=0,169, 100=0,1448, 250=0,11888, 500=0,10302, 1000=0,08976 (USD); Mounting Technology: Surface Mount; Pins: 16; Min Operating Temperature: -55°C; Max Operating Temperature: 155°C; Packaging: Tape and Reel; Number of Circuits: 8; Series: YC248; RoHS Compliant: Yes; ComponentLink1URL: https://media.digikey.com/pdf/Data%20Sheets/Yageo%20PDFs/YC102-358,TC122-164_Series_DS.pdf?src-supplier=Digikey; ComponentLink1Description: https://media.digikey.com/pdf/Data%20Sheets/Yageo%20PDFs/YC102-358,TC122-164_Series_DS.pdf?src-supplier=Digikey; Supplier 1: Digikey; Supplier Part Number 1: 13-YC248-FR-074K7LCT-ND
footprint 8RES_ARRAY_YC248 (Chip Resistor Surface Mount, 8 Resistors, 4x1.6mm)
part A pins: 1, 16
part B pins: 2, 15
part C pins: 3, 14
part D pins: 4, 13
part E pins: 5, 12
part F pins: 6, 11
part G pins: 7, 10
part H pins: 8, 9

## RES_ARRAY-30k-5%
designator R?
RES ARRAY 8 RES 30K OHM 1606; Manufacturer: Yageo Group; Manufacturer Part Number: YC248-FR-0730KL; Resistance: 30kR; Value: 30kR; Circuit Type: Isolated; Number of Circuits: 8; Number of Elements: 1; Power Dissipation: 62.5mW; Temperature Coefficient: 200ppm/°C; Tolerance: 1%; Working Voltage: 50V; Supplier 1: DigiKey; Supplier Part Number 1: YC248-FR-0730KL-ND; Supplier: DigiKey; Supplier Part Number: YC248-FR-0730KL-ND; RoHS: Compliant; Category: Resistor Arrays; Pricing: 5000=0,0667 (USD); Case/Package: 0616; China RoHS: Non-Compliant; Height: 450µm; Length: 3.9878mm; Lifecycle Status: Production; Max Operating Temperature: 155°C; Min Operating Temperature: -55°C; Mounting Technology: Surface Mount; Pins: 16; Number of Resistors: 8; Number of Terminals: 16; Packaging: Tape & Reel; Power Per Element: 62.5mW; REACH SVHC: Yes; Width: 1.6mm; ComponentLink1URL: https://datasheet.octopart.com:443/YC248-FR-0730KL-Yageo-Group-datasheet-182189746.pdf?src-supplier=IHS; ComponentLink1Description: https://datasheet.octopart.com:443/YC248-FR-0730KL-Yageo-Group-datasheet-182189746.pdf?src-supplier=IHS; ComponentLink2URL: https://datasheet.octopart.com:443/YC248-FR-0730KL-Yageo-datasheet-165271777.pdf?src-supplier=IHS; ComponentLink2Description: https://datasheet.octopart.com:443/YC248-FR-0730KL-Yageo-datasheet-165271777.pdf?src-supplier=IHS; ComponentLink3URL: https://datasheet.octopart.com/YC248-FR-0730KL-Yageo-datasheet-10911670.pdf; ComponentLink3Description: https://datasheet.octopart.com/YC248-FR-0730KL-Yageo-datasheet-10911670.pdf; ComponentLink4URL: http://sigma.octopart.com:80/conflict_mineral_statement/Yageo-company-3.pdf?src-supplier=Compliance+Statements; ComponentLink4Description: http://sigma.octopart.com:80/conflict_mineral_statement/Yageo-company-3.pdf?src-supplier=Compliance+Statements; ComponentLink5URL: http://sigma.octopart.com:80/rohs_statement/Yageo-company-2.pdf?src-supplier=Compliance+Statements; ComponentLink5Description: http://sigma.octopart.com:80/rohs_statement/Yageo-company-2.pdf?src-supplier=Compliance+Statements
footprint 8RES_ARRAY_YC248 (Chip Resistor Surface Mount, 8 Resistors, 4x1.6mm)
part A pins: 1, 16
part B pins: 2, 15
part C pins: 3, 14
part D pins: 4, 13
part E pins: 5, 12
part F pins: 6, 11
part G pins: 7, 10
part H pins: 8, 9

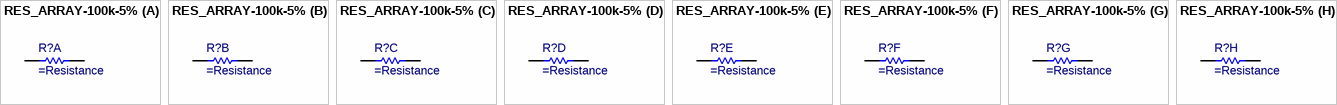
[diagram p2: symbol RES_ARRAY-100k-5%]

## RES_ARRAY-100k-5%
designator R?
RES ARRAY 8 RES 100K OHM 1606; Manufacturer: Yageo; Manufacturer Part Number: YC248-FR-07100KL; Resistance: 100kR; Circuit Type: Isolated; Value: 100kR; Number of Resistors: 8; Power Per Element: 62.5mW; Tolerance: 1%; Temperature Coefficient: 200ppm/°C; Supplier: Digikey; Supplier Part Number: 13-YC248-FR-07100KLCT-ND; RoHS: Yes; Category: Resistor Arrays; Stock: 5000; Pricing: 1=0,44, 10=0,246, 25=0,198, 50=0,169, 100=0,1448, 250=0,11888, 500=0,10302, 1000=0,08976 (USD); Mounting Technology: Surface Mount; Case/Package: 0616; Pins: 16; Min Operating Temperature: -55°C; Max Operating Temperature: 155°C; Packaging: Tape and Reel; Number of Circuits: 8; Series: YC248; RoHS Compliant: Yes; ComponentLink1URL: https://media.digikey.com/pdf/Data%20Sheets/Yageo%20PDFs/YC102-358,TC122-164_Series_DS.pdf?src-supplier=Digikey; ComponentLink1Description: https://media.digikey.com/pdf/Data%20Sheets/Yageo%20PDFs/YC102-358,TC122-164_Series_DS.pdf?src-supplier=Digikey; Supplier 1: Digikey; Supplier Part Number 1: 13-YC248-FR-07100KLCT-ND
footprint 8RES_ARRAY_YC248 (Chip Resistor Surface Mount, 8 Resistors, 4x1.6mm)
part A pins: 1, 16
part B pins: 2, 15
part C pins: 3, 14
part D pins: 4, 13
part E pins: 5, 12
part F pins: 6, 11
part G pins: 7, 10
part H pins: 8, 9